# Altium footprint library MEM20610118800A.PcbLib: 1 footprints
Each footprint in its own frame and in the unit in brackets; x right, y up, seen from the top. Pads: shape width x height; smd on the part's side, far side on the other; paste and mask are expansions set on the pad; w line width, h text height; cw(c..) or ccw(c..) is an arc to the next point about the centre after c.
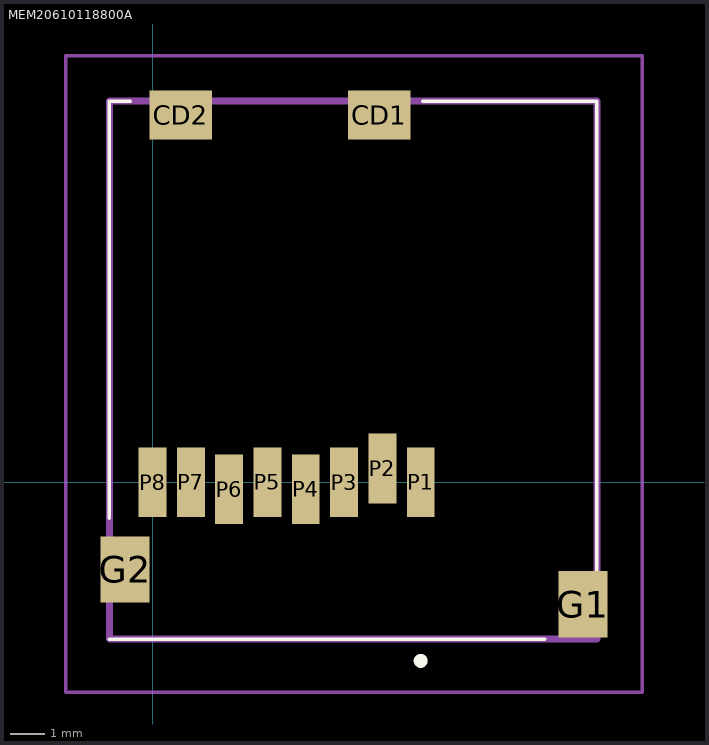
[diagram p0: the footprint, top view; thin cyan lines are the x and y axes]

## MEM20610118800A [mm]
pads (12):
  rect 1.8x1.4 smd: CD1(6.51,10.55) CD2(0.81,10.55)
  rect 1.4x1.9 smd: G1(12.36,-3.5) G2(-0.79,-2.5)
  rect 0.8x2 smd: P1(7.7,0) P2(6.6,0.4) P3(5.5,0) P4(4.4,-0.2) P5(3.3,0) P6(2.2,-0.2) P7(1.1,0) P8(0,0)
Top Overlay:
  lines w0.1: -1.24,-4.5 11.26,-4.5 ; -1.24,-1.025 -1.24,10.95 -0.64,10.95 ; 7.76,10.95 12.76,10.95 12.76,-2.825
  lines w0.2: 7.7,-5.225 ccw(c7.7,-5.125) 7.7,-5.025 ccw(c7.7,-5.125) 7.7,-5.225
Mechanical 15:
  lines w0.2: -1.24,-4.5 12.76,-4.5 12.76,10.95 -1.24,10.95 -1.24,-4.5
Mechanical 20:
  lines w0.1: -2.49,-6.025 14.06,-6.025 14.06,12.25 -2.49,12.25 -2.49,-6.025
3D body "MEM2061-01-188-00-A_REVA.step": height 1.88, standoff 0, extent -1.258,-4.55 12.942,10.9